# EAGLE library part 74XX-EU_74*00 (library ネオぴゅう太_ReplaceLibParts)
Quad 2-input NAND gate
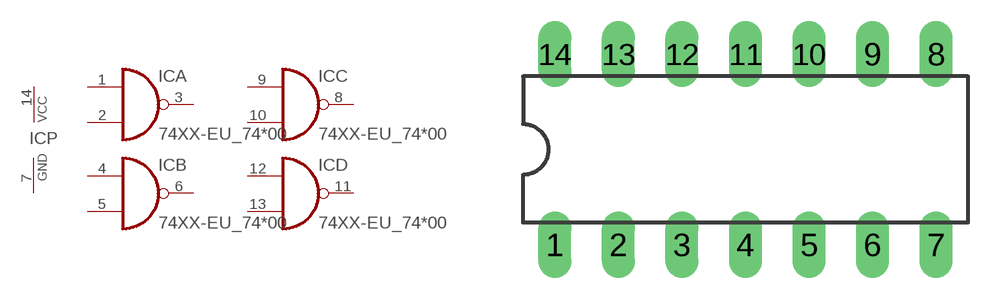
[diagram p0: symbol with the pads of 74XX-EU_DIL14; footprint 74XX-EU_DIL14]

Designator prefix IC; gates A=74XX-EU_7400 B=74XX-EU_7400 C=74XX-EU_7400 D=74XX-EU_7400 P=74XX-EU_PWRN

## 74XX-EU_7400N, 74XX-EU_74AC00N, 74XX-EU_74ACT00N, 74XX-EU_74ALS00N, 74XX-EU_74AS00N, 74XX-EU_74HC00N, 74XX-EU_74HCT00N, 74XX-EU_74LS00N, 74XX-EU_74S00N  [74XX-EU_DIL14]
1  A:I0  in
2  A:I1  in
3  A:O  out
4  B:I0  in
5  B:I1  in
6  B:O  out
7  P:GND  pwr
8  C:O  out
9  C:I0  in
10  C:I1  in
11  D:O  out
12  D:I0  in
13  D:I1  in
14  P:VCC  pwr

## Footprint 74XX-EU_DIL14 (pad centres in mm)
Dual In Line Package
drill 0.813 long: 1 -7.62,-3.81; 2 -5.08,-3.81; 3 -2.54,-3.81; 4 0,-3.81; 5 2.54,-3.81; 6 5.08,-3.81; 7 7.62,-3.81; 8 7.62,3.81; 9 5.08,3.81; 10 2.54,3.81; 11 0,3.81; 12 -2.54,3.81; 13 -5.08,3.81; 14 -7.62,3.81